# EAGLE library part RX5808 (library boscam)
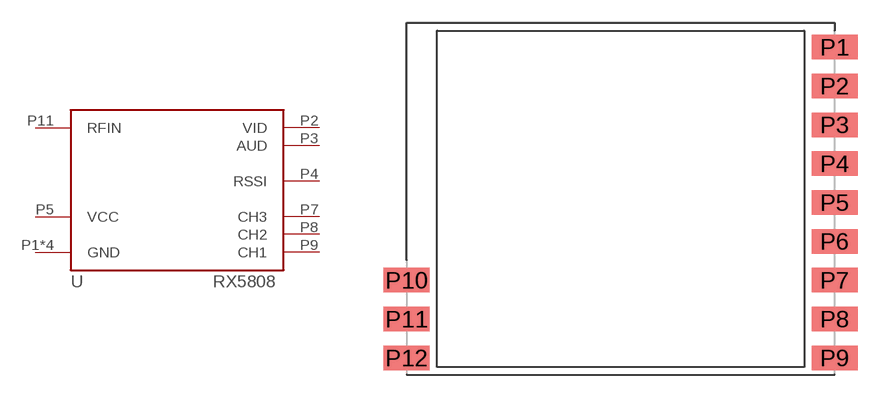
[diagram p0: symbol with the pads of RX5808; footprint RX5808]

Designator prefix -

## RX5808  [RX5808]
P1  GND
P2  VID
P3  AUD
P4  RSSI
P5  VCC
P6  GND
P7  CH3
P8  CH2
P9  CH1
P10  GND
P11  RFIN
P12  GND

## Footprint RX5808 (pad centres in mm)
smd 3 x 1.6: P1 14,9.92; P2 14,7.38; P3 14,4.84; P4 14,2.3; P5 14,-0.24; P6 14,-2.78; P7 14,-5.32; P8 14,-7.86; P9 14,-10.4; P10 -14,-5.32; P11 -14,-7.86; P12 -14,-10.4